# Altium schematic symbol library OSP_DJB_Rigid.SchLib: 18 symbols
Pins are listed as number, name and electrical type; pins without a type are passive.

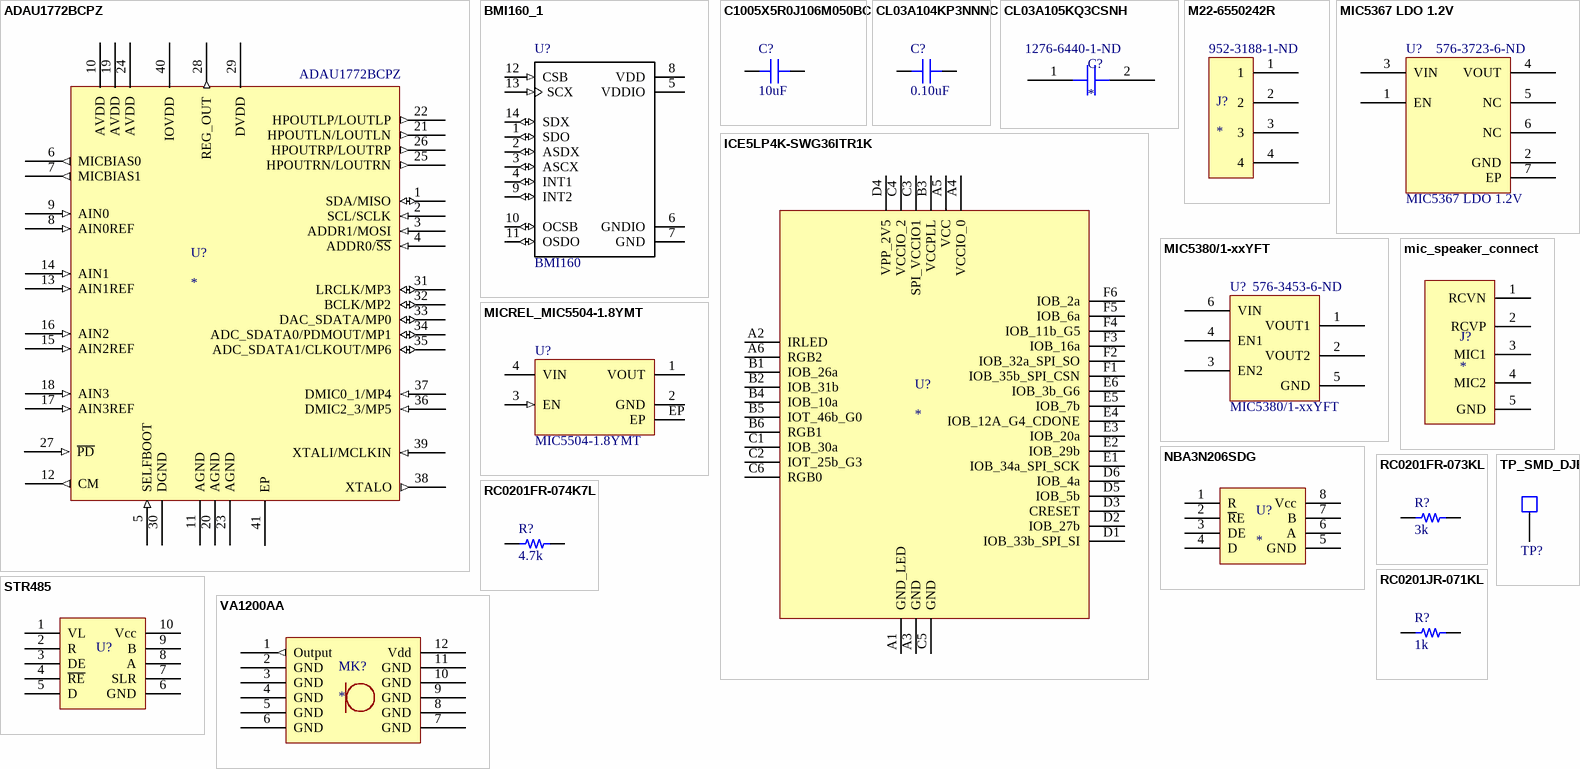
[diagram p0: symbols ADAU1772BCPZ to VA1200AA]

## ADAU1772BCPZ
designator U?  Supplier Part Number 1: ADAU1772BCPZ
General Purpose Audio Codec 4ADC / 2DAC Ch 40-Pin LFCSP; Supplier 1: Arrow Electronics
footprint ADAU1772BCPZ (General Purpose Audio Codec 4ADC / 2DAC Ch 40-Pin LFCSP)
pins: 1 SDA/MISO (io), 2 SCL/SCLK (in), 3 ADDR1/MOSI (in), 4 ADDR0/~{SS} (in), 5 SELFBOOT (in), 6 MICBIAS0 (out), 7 MICBIAS1 (out), 8 AIN0REF (in), 9 AIN0 (in), 10 AVDD (power), 11 AGND (power), 12 CM (out), 13 AIN1REF (in), 14 AIN1 (in), 15 AIN2REF (in), 16 AIN2 (in), 17 AIN3REF (in), 18 AIN3 (in), 19 AVDD (power), 20 AGND (power), 21 HPOUTLN/LOUTLN (out), 22 HPOUTLP/LOUTLP (out), 23 AGND (power), 24 AVDD (power), 25 HPOUTRN/LOUTRN (out), 26 HPOUTRP/LOUTRP (out), 27 ~{PD} (in), 28 REG_OUT (out), 29 DVDD (power), 30 DGND (power), 31 LRCLK/MP3 (io), 32 BCLK/MP2 (io), 33 DAC_SDATA/MP0 (io), 34 ADC_SDATA0/PDMOUT/MP1 (io), 35 ADC_SDATA1/CLKOUT/MP6 (io), 36 DMIC2_3/MP5 (in), 37 DMIC0_1/MP4 (in), 38 XTALO (out), 39 XTALI/MCLKIN (in), 40 IOVDD (power), 41 EP

## BMI160_1
designator U?, comment BMI160
BMI160 2.5 x 3 mm Tiaxial Accelerometer / Gyroscope Inertial Measurement Unit; MF: Bosch; Availability: Good; Package: LGA-14 Bosch; Price: 3.29 USD; MP: BMI160; Value: *
footprint BMI160 (IMU accelerometer)
pins: 1 SDO (io), 2 ASDX (io), 3 ASCX (io), 4 INT1 (io), 5 VDDIO (power), 6 GNDIO (power), 7 GND (power), 8 VDD (power), 9 INT2 (io), 10 OCSB (io), 11 OSDO (io), 12 CSB (in), 13 SCX (in), 14 SDX (io)

## C1005X5R0J106M050BC
designator C?, comment 10uF
CAP CER 10UF 6.3V X5R 0402; Part Number: C1005X5R0J106M050BC; Manufacturer: TDK Corporation; TemperatureRange: -55C ~ 85C; Tolerance: 20%; Value: 10uF; PartId: 12380; Supplier 1: Digi-Key; Supplier Part Number 1: 445-8920-2-ND; ComponentLink1Description: Datasheet; ComponentLink1URL: https://product.tdk.com/info/en/catalog/datasheets/mlcc_commercial_general_en.pdf; ComponentLink2Description: Digi-Key Listing; ComponentLink2URL: https://www.digikey.com/product-detail/en/tdk-corporation/C1005X5R0J106M050BC/445-8920-2-ND/3507809; TemperatureCoefficient: X5R; Voltage: 6.3V; Price: 0.119; Device Package: 0402 (1005 Metric)
footprint CAP 0402/1005
pins: 1, 2

## CL03A104KP3NNNC
designator C?, comment 0.10uF
CAP CER 0.1UF 10V X5R 0201; Part Number: CL03A104KP3NNNC; Manufacturer: Samsung Electro-Mechanics America, Inc.; TemperatureRange: -55C ~ 85C; Tolerance: 10%; Value: 0.10uF; PartId: 20562; Supplier 1: Digi-Key; Supplier Part Number 1: 1276-1115-2-ND; ComponentLink1Description: Datasheet; ComponentLink1URL: http://www.samsungsem.com/kr/support/product-search/mlcc/__icsFiles/afieldfile/2016/08/18/S_CL03A104KP3NNND.pdf; ComponentLink2Description: Digi-Key Listing; ComponentLink2URL: https://www.digikey.com/product-detail/en/samsung-electro-mechanics-america-inc/CL03A104KP3NNNC/1276-1115-2-ND/3886773; TemperatureCoefficient: X5R; Voltage: 10V; Price: 0.0031; Device Package: 0201 (0603 Metric)
footprint CAP 0201/0603
pins: 1, 2

## CL03A105KQ3CSNH
designator C?  Supplier Part Number 1: 1276-6440-1-ND
1 µF ±10% 6.3V Ceramic Capacitor X5R 0201 (0603 Metric); Supplier 1: Digi-Key
footprint CL03A105KQ3CSNH
pins: 1, 2

## ICE5LP4K-SWG36ITR1K
designator U?
Field Programmable Gate Array (FPGA) IC 25 65536 1280 36-VFBGA; Supplier 1: Digi-Key
footprint 36-XFBGA
pins: A1 GND_LED, A2 IRLED, A3 GND, A4 VCCIO_0, A5 VCC, A6 RGB2, B1 IOB_26a, B2 IOB_31b, B3 VCCPLL, B4 IOB_10a, B5 IOT_46b_G0, B6 RGB1, C1 IOB_30a, C2 IOT_25b_G3, C3 SPI_VCCIO1, C4 VCCIO_2, C5 GND, C6 RGB0, D1 IOB_33b_SPI_SI, D2 IOB_27b, D3 CRESET, D4 VPP_2V5, D5 IOB_5b, D6 IOB_4a, E1 IOB_34a_SPI_SCK, E2 IOB_29b, E3 IOB_20a, E4 IOB_12A_G4_CDONE, E5 IOB_7b, E6 IOB_3b_G6, F1 IOB_35b_SPI_CSN, F2 IOB_32a_SPI_SO, F3 IOB_16a, F4 IOB_11b_G5, F5 IOB_6a, F6 IOB_2a

## M22-6550242R
designator J?  Supplier Part Number 1: 952-3188-1-ND
4 Position Receptacle Connector 0.079" (2.00mm) Surface Mount, Right Angle Gold; Supplier 1: Digi-Key
footprint M22-6550242R (4 Position Receptacle Connector 0.079" (2.00mm) Surface Mount, Right Angle Gold)
pins: 1, 2, 3, 4

## MIC5367 LDO 1.2V
designator U?  Supplier Part Number 1: 576-3723-6-ND
Supplier 1: Digi-Key
footprint MIC5367 LDO 1.2V
pins: 1 EN, 2 GND, 3 VIN, 4 VOUT, 5 NC, 6 NC, 7 EP

## MIC5380/1-xxYFT
designator U?  Supplier Part Number 1: 576-3453-6-ND
LDO 2fixed Outputs; Supplier 1: Digi-Key
footprint MIC5380/1-xxYFT (LDO 2fixed Outputs)
pins: 1 VOUT1, 2 VOUT2, 3 EN2, 4 EN1, 5 GND, 6 VIN

## mic_speaker_connect
designator J?
connector to integrated microphone and speaker
pins: 1 RCVN, 2 RCVP, 3 MIC1, 4 MIC2, 5 GND

## MICREL_MIC5504-1.8YMT
designator U?, comment MIC5504-1.8YMT
Micrel MIC5504-1.8YMT 1.8V 300mA LDO
footprint MIC5504-1.8YMT (Micrel MIC5504-1.8YMT 1.8V 300mA LDO)
pins: 1 VOUT (power), 2 GND (power), 3 EN (in), 4 VIN (power), EP (power)

## NBA3N206SDG
designator U?
1/1 Transceiver Half LVDS, Multipoint 8-SOIC
footprint 8-SOIC
pins: 1 R, 2 ~{R}E, 3 DE, 4 D, 5 GND, 6 A, 7 B, 8 Vcc

## RC0201FR-073KL
designator R?, comment 3k
RES SMD 3K OHM 1% 1/20W 0201; Part Number: RC0201FR-073KL; Manufacturer: Yageo; TemperatureRange: -55C ~ 125C; TemperatureCoefficient: 200ppm/C; PowerRating: 0.05W, 1/20W; Value: 3k; PartId: 19520; Supplier 1: Digi-Key; Supplier Part Number 1: YAG2656TR-ND; ComponentLink1Description: Datasheet; ComponentLink1URL: http://www.yageo.com/documents/recent/PYu-RC_Group_51_RoHS_L_04.pdf; ComponentLink2Description: Digi-Key Listing; ComponentLink2URL: https://www.digikey.com/product-detail/en/yageo/RC0201FR-073KL/YAG2656TR-ND/5280516; Tolerance: 1%; Price: 0.0042; Device Package: 0201 (0603 Metric)
footprint RES 0201/0603
pins: 1, 2

## RC0201FR-074K7L
designator R?, comment 4.7k
RES SMD 4.7K OHM 1% 1/20W 0201; Part Number: RC0201FR-074K7L; Manufacturer: Yageo; TemperatureRange: -55C ~ 125C; TemperatureCoefficient: 200ppm/C; PowerRating: 0.05W, 1/20W; Value: 4.7k; PartId: 19526; Supplier 1: Digi-Key; Supplier Part Number 1: 311-4.70KMTR-ND; ComponentLink1Description: Datasheet; ComponentLink1URL: http://www.yageo.com/documents/recent/PYu-RC_Group_51_RoHS_L_04.pdf; ComponentLink2Description: Digi-Key Listing; ComponentLink2URL: https://www.digikey.com/product-detail/en/yageo/RC0201FR-074K7L/311-4.70KMTR-ND/1948894; Tolerance: 1%; Price: 0.0056; Device Package: 0201 (0603 Metric)
footprint RES 0201/0603
pins: 1, 2

## RC0201JR-071KL
designator R?, comment 1k
RES SMD 1K OHM 5% 1/20W 0201; Part Number: RC0201JR-071KL; Manufacturer: Yageo; TemperatureRange: -55C ~ 125C; TemperatureCoefficient: 200ppm/C; PowerRating: 0.05W, 1/20W; Value: 1k; PartId: 19463; Supplier 1: Digi-Key; Supplier Part Number 1: 311-1KNTR-ND; ComponentLink1Description: Datasheet; ComponentLink1URL: http://www.yageo.com/documents/recent/PYu-RC_Group_51_RoHS_L_04.pdf; ComponentLink2Description: Digi-Key Listing; ComponentLink2URL: https://www.digikey.com/product-detail/en/yageo/RC0201JR-071KL/311-1KNTR-ND/1948922; Tolerance: 5%; Price: 0.0042; Device Package: 0201 (0603 Metric)
footprint RES 0201/0603
pins: 1, 2

## STR485
designator U?
3.3 V LVDS RS485 compatible with 1.8 V I/Os and selectable speed
footprint STR485LVQT (3.3V RS485 compatible with 1.8V I/Os and selectable speed 20Mbps or 250kbps)
pins: 1 VL, 2 R, 3 DE, 4 ~{RE}, 5 D, 6 GND, 7 SLR, 8 A, 9 B, 10 Vcc

## TP_SMD_DJB
designator TP?  (value not drawn)
Digital Jellybean Style SMD Test Point; DNP: DNP
footprint TP_SMD_DJB (DJB style test point)
pins: 1

## VA1200AA
designator MK?
Bone Conductor Sensor Accelerometer
footprint VA1200AA
pins: 1 Output (out), 2 GND (power), 3 GND (power), 4 GND (power), 5 GND (power), 6 GND (power), 7 GND (power), 8 GND (power), 9 GND (power), 10 GND (power), 11 GND (power), 12 Vdd (power)